# EAGLE library part P-B170 (library #PaJa_prepinace)
Tlacitkovy prepinac - dvojity (8 x 8mm) P-B170G - s aretaci P-B170H - bez aretace
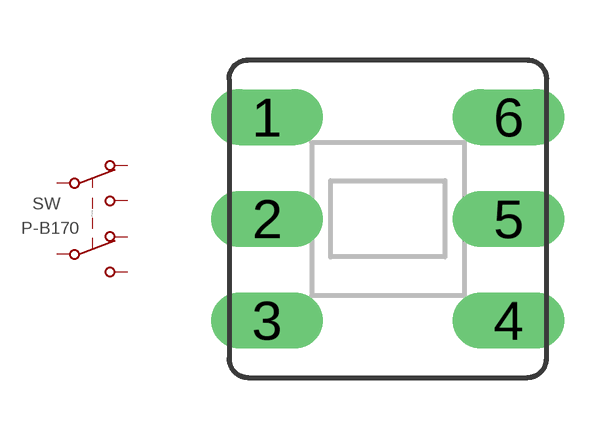
[diagram p10: symbol with the pads of P-B170; footprint P-B170]

Designator prefix SW

## P-B170  [P-B170]
1  S1  pas
2  R1  pas
3  X1  pas
4  S2  pas
5  R2  pas
6  X2  pas

## Footprint P-B170 (pad centres in mm)
Tlacitkovy prepinac - dvojity
drill 0.813 pad 1.4 long: 1 0,5.08; 2 0,2.54; 3 0,0; 4 6.032,0; 5 6.032,2.54; 6 6.032,5.08